# Altium footprint library Capacitor.PcbLib: 19 footprints (part 2 of 2)
Each footprint in its own frame and in the unit in brackets; x right, y up, seen from the top. Pads: shape width x height; smd on the part's side, far side on the other; paste and mask are expansions set on the pad; w line width, h text height; cw(c..) or ccw(c..) is an arc to the next point about the centre after c.
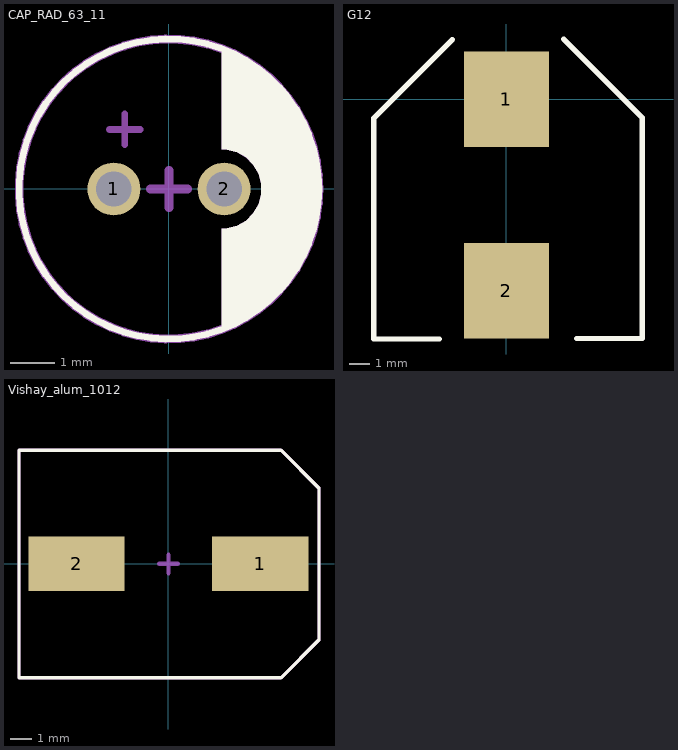
[diagram p1: the footprints below, top view; thin cyan lines are the x and y axes]

## CAP_RAD_63_11 [mm]
pads (2):
  round 1.2 hole 0.8: 1(-1.25,0) 2(1.25,0)
Top Overlay:
  circle w0.15: c0,0 r3.4
  region: 1.2,-3.2 1.2,-0.9 1.317,-0.892 1.544,-0.831 1.748,-0.714 1.914,-0.548 2.031,-0.344 2.092,-0.117 2.092,0.117 2.031,0.344 1.914,0.548 1.748,0.714 1.544,0.831 1.317,0.892 1.2,0.9 1.2,3.2 1.439,3.105 1.884,2.847 2.286,2.525 2.636,2.148 2.925,1.722 3.148,1.258 3.299,0.766 3.376,0.257 3.376,-0.257 3.299,-0.766 3.148,-1.258 2.925,-1.722 2.636,-2.148 2.286,-2.525 1.884,-2.847 1.439,-3.105
Top Assembly:
  circle w0.15: c0,0 r3.4
  region: 1.2,-3.2 1.2,-0.9 1.317,-0.892 1.544,-0.832 1.748,-0.714 1.914,-0.548 2.031,-0.344 2.092,-0.118 2.092,0.117 2.031,0.344 1.914,0.548 1.748,0.714 1.544,0.831 1.317,0.892 1.2,0.9 1.2,3.2 1.439,3.105 1.884,2.847 2.286,2.525 2.636,2.148 2.925,1.722 3.148,1.258 3.299,0.766 3.376,0.257 3.376,-0.257 3.299,-0.766 3.148,-1.258 2.925,-1.722 2.636,-2.148 2.286,-2.526 1.884,-2.847 1.439,-3.105
  lines w0.15: -1.35,1.35 -0.65,1.35 ; -1,1 -1,1.7
  text "'.Designator'" at -4.7,3.5 h0.8
Top Courtyard:
  circle w0.2: c0,0 r3.4
  lines w0.2: -0.425,0 0.425,0 ; 0,-0.425 0,0.425
3D body "ESK476M050AE3EA.step": height 12.6, standoff -19.9, extent -3.386,-3.4 3.385,3.4

## G12 [mm]
pads (2):
  rect 4.1x4.6 smd: 1(0,0) 2(0,-9.2)
Top Overlay:
  lines w0.254: -3.225,-11.525 -6.375,-11.525 -6.375,-5.375 -6.375,-0.9 -2.6,2.875 ; 2.75,2.9 6.525,-0.875 6.525,-5.35 6.525,-11.5 3.375,-11.5
Top Assembly:
  text "BAD" at -0.747,5.453 h0.8
  text "CHECK" at -1.647,4.053 h0.8

## Vishay_alum_1012 [mm]
pads (2):
  rect 4.4x2.5 smd: 1(4.2,0) 2(-4.2,0)
Top Overlay:
  lines w0.153: -6.83,-5.21 -6.83,-0.01 -6.83,5.19 ; -6.82,-5.21 5.147,-5.21 6.88,-3.477 6.88,3.457 5.147,5.19 -6.82,5.19
Top Assembly:
  lines w0.153: -6.83,-5.2 -6.83,0 -6.83,5.2 ; -6.82,-5.2 5.147,-5.2 6.88,-3.467 6.88,3.467 5.147,5.2 -6.82,5.2
  text "CHECK" at -5.436,7.102 h0.8
  text "'.Designator'" at -6.82,5.19 h0.8
Top Courtyard:
  lines w0.1: -6.83,-5.21 -6.83,-0.01 -6.83,5.19 ; -6.82,-5.21 5.147,-5.21 6.88,-3.477 6.88,3.457 5.147,5.19 -6.82,5.19
  lines w0.2: -0.425,0 0.425,0 ; 0,-0.425 0,0.425
3D body "CAP_97101E3_VIS.step": height 13.06, standoff 0, extent -6.045,-5.004 6.045,5.004